# EAGLE library part 535512-12 (library con-tyco-modu)
RECEPTACAL
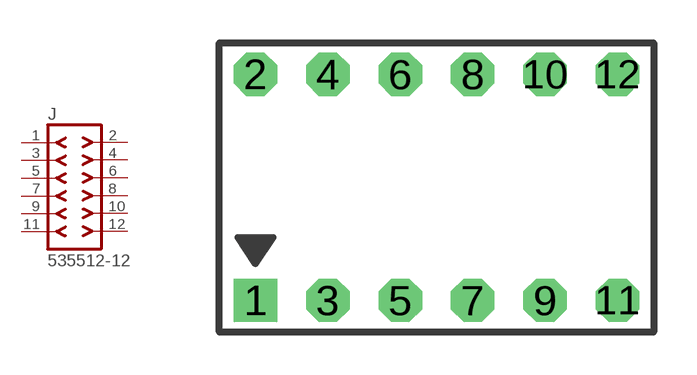
[diagram p17: symbol with the pads of 535512-12; footprint 535512-12]

Designator prefix J

## 535512-12  [535512-12]
1  1  pas
2  2  pas
3  3  pas
4  4  pas
5  5  pas
6  6  pas
7  7  pas
8  8  pas
9  9  pas
10  10  pas
11  11  pas
12  12  pas

## Footprint 535512-12 (pad centres in mm)
AMPMODU - 535512 Series
drill 1.016 square: 1 -6.35,0
drill 1.016 octagon: 2 -6.35,7.938; 3 -3.81,0; 4 -3.81,7.938; 5 -1.27,0; 6 -1.27,7.938; 7 1.27,0; 8 1.27,7.938; 9 3.81,0; 10 3.81,7.938; 11 6.35,0; 12 6.35,7.938